# Altium schematic symbol library CRCW0402330KFKED.SchLib: 1 symbol
Pins are listed as number, name and electrical type; pins without a type are passive.

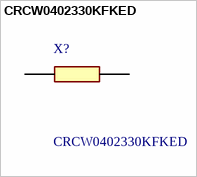
[diagram p0: symbol CRCW0402330KFKED]

## CRCW0402330KFKED
designator X?
Vishay CRCW Series Thick Film Surface Mount Resistor 402 Case 330k +/-1% 0.063W +/-100ppm/C; Geometry.Height: 0.4mm; Mouser Part Number: 71-CRCW0402-330K-E3; Mouser Price/Stock: https://www.mouser.co.uk/ProductDetail/Vishay-Dale/CRCW0402330KFKED?qs=M5h4kKQH9pJYkM2oWvTUGg%3D%3D; Manufacturer_Name: Vishay; Manufacturer_Part_Number: CRCW0402330KFKED; Datasheet Link: http://www.vishay.com/docs/20035/dcrcwe3.pdf
footprint RESC1005X40N
pins: 1, 2